# EAGLE library part RELAY-EE2 (library Ai_Electromechanical)
ULTRA MINIATURE RELAY 2 POLES - 2 A (Slim Profile Signal Relay) FUJITSU FTR-B4 SERIES Source: FTR-B4.pdf
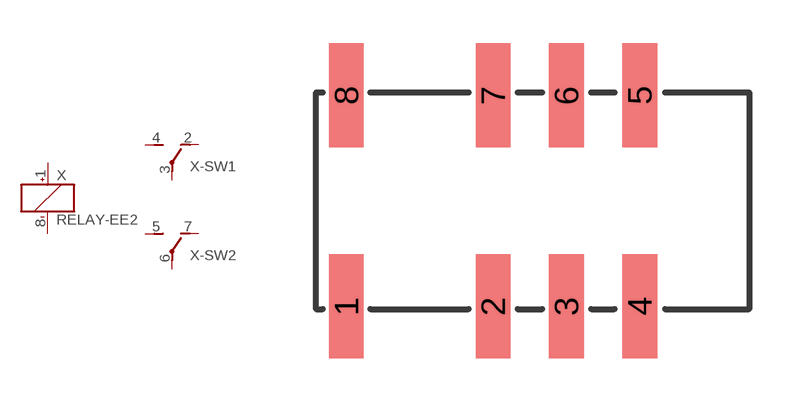
[diagram p1: symbol with the pads of EE2; footprint EE2]

Designator prefix X; gates G$1=RELAY-CO -SW1=RELAY-SW -SW2=RELAY-SW

## RELAY-EE2  [EE2]
1  G$1:+  pas
2  -SW1:NC  pas
3  -SW1:COMMON  pas
4  -SW1:NO  pas
5  -SW2:NO  pas
6  -SW2:COMMON  pas
7  -SW2:NC  pas
8  G$1:-  pas

## Footprint EE2 (pad centres in mm)
ULTRA MINIATURE RELAY 2 POLES - 2 A (Slim Profile Signal Relay) FUJITSU FTR-B4 SERIES Source: FTR-B4.pdf
smd 1.2 x 3.6: 1 -5.08,-3.65; 2 0,-3.65; 3 2.54,-3.65; 4 5.08,-3.65; 5 5.08,3.65; 6 2.54,3.65; 7 0,3.65; 8 -5.08,3.65